# Altium schematic symbol library SH-7050MB.SchLib: 1 symbol
Pins are listed as number, name and electrical type; pins without a type are passive.

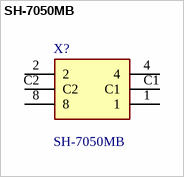
[diagram p0: symbol SH-7050MB]

## SH-7050MB
designator X?
Copal Electronics SH-7000, 16 Position SP16T Rotary Switch, 100 mA, Gull Wing; Manufacturer_Name: Nidec Copal; Geometry.Height: 3.75mm; Mouser Part Number: 229-SH-7050MB; Mouser Price/Stock: https://www.mouser.co.uk/ProductDetail/Nidec-Components/SH-7050MB?qs=XeJtXLiO41RDpFTGiyYBpQ%3D%3D; Manufacturer_Part_Number: SH-7050MB; Datasheet Link: *
footprint SH7050MB
pins: 1, 2, 4, 8, C1, C2